# Altium footprint library C_12.5x35x5.PcbLib: 1 footprints
Each footprint in its own frame and in the unit in brackets; x right, y up, seen from the top. Pads: shape width x height; smd on the part's side, far side on the other; paste and mask are expansions set on the pad; w line width, h text height; cw(c..) or ccw(c..) is an arc to the next point about the centre after c.
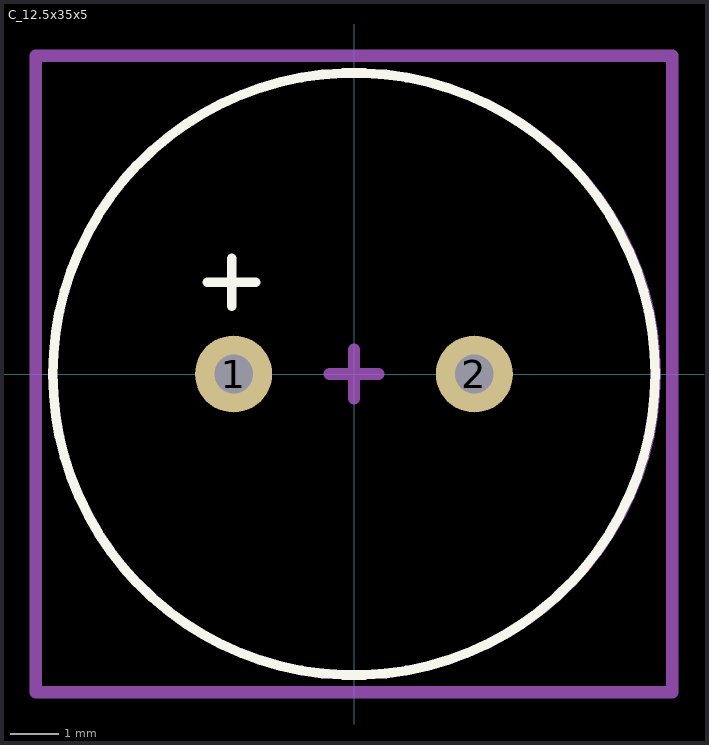
[diagram p0: the footprint, top view; thin cyan lines are the x and y axes]

## C_12.5x35x5 [mm]
pads (2):
  round 1.6 hole 0.8: 1(-2.5,0) 2(2.5,0)
Top Overlay:
  circle w0.2: c0,0 r6.25
  lines w0.2: -3.04,1.905 -2.04,1.905 ; -2.54,1.405 -2.54,2.405
Top Assembly:
  circle w0.127: c0.04,0 r6.267
Top Courtyard:
  lines w0.254: -0.508,0 0.508,0 ; 0,-0.508 0,0.508 ; -6.604,-6.604 -6.604,6.604 6.604,6.604 6.604,-6.604 -6.604,-6.604
3D body "User Library-CapAluRadial_D125H350.STEP": height 37, standoff -3, extent -6.46,-6.496 6.54,6.496